# EAGLE library part HDR8-1 (library scono)
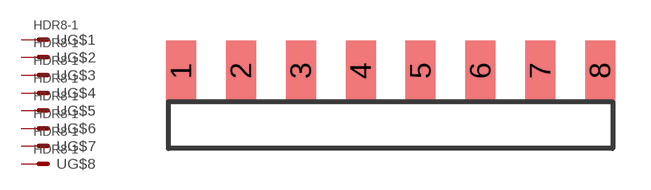
[diagram p4: symbol with the pads of HEADER-8P-SMD; footprint HEADER-8P-SMD]

Designator prefix -; gates G$1=MV G$2=MV G$3=MV G$4=MV G$5=MV G$6=MV G$7=MV G$8=MV

## HDR8-1  [HEADER-8P-SMD]
1  G$1:S  pas
2  G$2:S  pas
3  G$3:S  pas
4  G$4:S  pas
5  G$5:S  pas
6  G$6:S  pas
7  G$7:S  pas
8  G$8:S  pas

## Footprint HEADER-8P-SMD (pad centres in mm)
smd 1.27 x 2.54: 1 -2.54,1.68; 2 0,1.68; 3 2.54,1.68; 4 5.08,1.68; 5 7.62,1.68; 6 10.16,1.68; 7 12.7,1.68; 8 15.24,1.68